# Altium schematic symbol library CAP_INDUCTOR.SchLib: 3 symbols
Pins are listed as number, name and electrical type; pins without a type are passive.

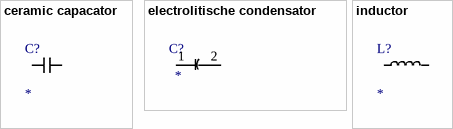
[diagram p0: symbols ceramic capacator to inductor]

## ceramic capacator
designator C?
type: *
footprint 0201_SMD_CAP
footprint 0402_SMD_CAP
footprint 0603_SMD_CAP
pins: 1, 2

## electrolitische condensator
designator C?
type: *
pins: 1, 2

## inductor
designator L?
type: *
footprint 0201_SMD_INDUCTOR
footprint 2.4-4mm pad 1.5 pad to pad
pins: 1, 2